# EAGLE library part RX5808 (library boscam)
Boscam RX5808 5.8 GHz AV receiver module.
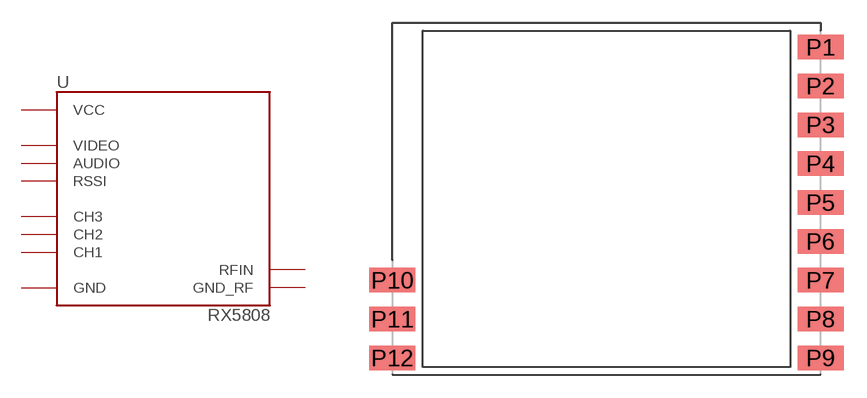
[diagram p0: symbol with the pads of RX5808_SMD; footprint RX5808_SMD]

Designator prefix -

## RX5808  [RX5808_SMD]
P1  GND  pwr
P2  VIDEO  out
P3  AUDIO  out
P4  RSSI  out
P5  VCC  pwr
P6  GND  pwr
P7  CH3
P8  CH2
P9  CH1
P10  GND_RF
P11  RFIN
P12  GND_RF

## Footprint RX5808_SMD (pad centres in mm)
smd 3 x 1.6: P1 14,9.92; P2 14,7.38; P3 14,4.84; P4 14,2.3; P5 14,-0.24; P6 14,-2.78; P7 14,-5.32; P8 14,-7.86; P9 14,-10.4; P10 -14,-5.32; P11 -14,-7.86; P12 -14,-10.4